# EAGLE library part L293D (library Chip)
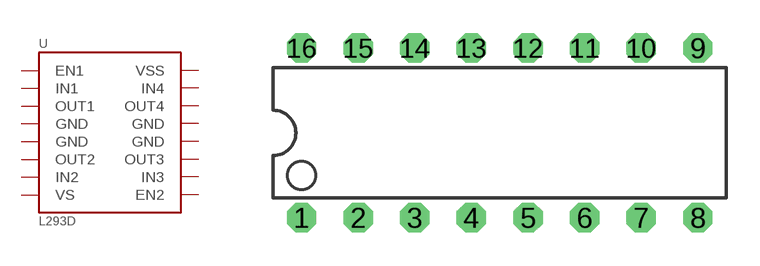
[diagram p11: symbol with the pads of DIP16; footprint DIP16]

Designator prefix -

## L293D  [DIP16]
1  EN1
2  IN1
3  OUT1
4  GND
5  GND
6  OUT2
7  IN2
8  VS
9  EN2
10  IN3
11  OUT3
12  GND
13  GND
14  OUT4
15  IN4
16  VSS

## Footprint DIP16 (pad centres in mm)
Dual In Line Package
drill 0.813 octagon: 1 -8.89,-3.81; 2 -6.35,-3.81; 3 -3.81,-3.81; 4 -1.27,-3.81; 5 1.27,-3.81; 6 3.81,-3.81; 7 6.35,-3.81; 8 8.89,-3.81; 9 8.89,3.81; 10 6.35,3.81; 11 3.81,3.81; 12 1.27,3.81; 13 -1.27,3.81; 14 -3.81,3.81; 15 -6.35,3.81; 16 -8.89,3.81